# Altium footprint library Ceramic Capacitor.PcbLib: 3 footprints
Each footprint in its own frame and in the unit in brackets; x right, y up, seen from the top. Pads: shape width x height; smd on the part's side, far side on the other; paste and mask are expansions set on the pad; w line width, h text height; cw(c..) or ccw(c..) is an arc to the next point about the centre after c.
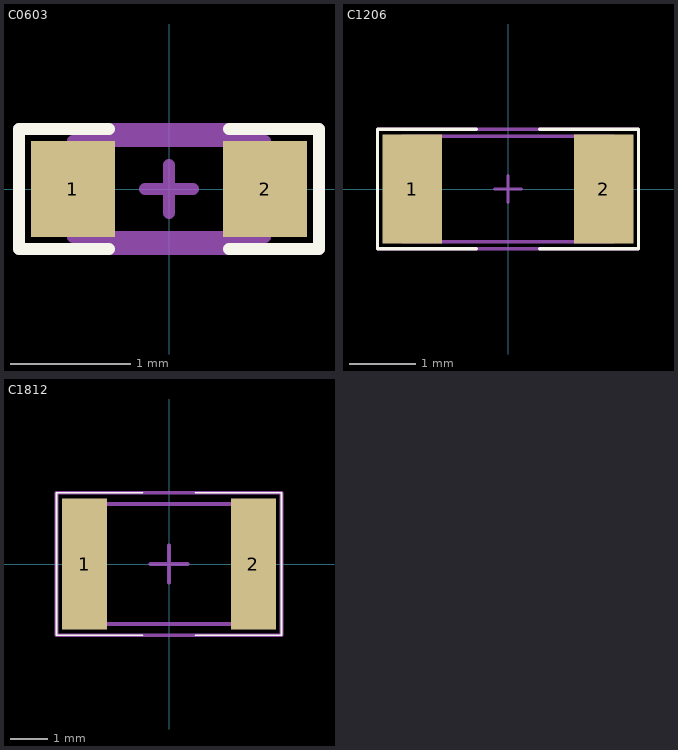
[diagram p0: the footprints below, top view; thin cyan lines are the x and y axes]

## C0603 [mm] "Capacıtor 0603"
pads (2):
  rect 0.7x0.8 smd mask+0.05: 1(-0.8,0) 2(0.8,0)
Top Overlay:
  lines w0.1: -0.5,-0.5 -1.25,-0.5 ; -0.5,0.5 -1.25,0.5 -1.25,-0.5 ; 0.5,-0.5 1.25,-0.5 1.25,0.5 ; 0.5,0.5 1.25,0.5 ; -1.25,-0.5 -1.25,-0.5 ; -1.25,-0.5 -1.25,-0.5 ; 1.25,0.5 1.25,0.5 ; 1.25,0.5 1.25,0.5
Top 3D Body:
  lines w0.1: -0.8,-0.4 -0.8,0.4 0.8,0.4 0.8,-0.4 -0.8,-0.4
Top Component Center:
  lines w0.1: -0.2,0 0.2,0 ; 0,-0.2 0,0.2 ; -1.25,-0.5 1.25,-0.5 1.25,0.5 -1.25,0.5 -1.25,-0.5
Top Designator:
  lines w0.1: -1.25,-0.5 1.25,-0.5 1.25,0.5 -1.25,0.5 -1.25,-0.5
  text ".Designator" at -0.963,-0.216 h0.5
3D body "Ceramic_Capacitor_0603_h32mil.step": height 0.81, standoff 0.01, extent -0.8,-0.4 0.8,0.4

## C1206 [mm] "Capacıtor 1206"
pads (2):
  rect 0.9x1.65 smd mask+0.05: 1(-1.45,0) 2(1.45,0)
Top Overlay:
  lines w0.05: -0.48,-0.905 -1.98,-0.905 -1.98,0.905 -0.48,0.905 ; 0.48,-0.905 1.98,-0.905 1.98,0.905 0.48,0.905
Top 3D Body:
  lines w0.05: -1.6,-0.8 -1.6,0.8 1.6,0.8 1.6,-0.8 -1.6,-0.8
Top Component Center:
  lines w0.05: -0.2,0 0.2,0 ; 0,-0.2 0,0.2 ; -1.98,-0.905 1.98,-0.905 1.98,0.905 -1.98,0.905 -1.98,-0.905
Top Designator:
  lines w0.05: -1.98,-0.905 -1.98,0.905 1.98,0.905 1.98,-0.905 -1.98,-0.905
  text ".Designator" at -0.213,-0.119 h0.5
3D body "Ceramic_Capacitor_1206_h63mil.step": height 1.61, standoff 0.01, extent -1.6,-0.8 1.6,0.8

## C1812 [mm]
pads (2):
  rect 1.2x3.5 smd mask+0.05: 1(-2.25,0) 2(2.25,0)
Top Overlay:
  lines w0.05: -0.7,-1.9 -3,-1.9 -3,1.9 -0.7,1.9 ; 0.7,-1.9 3,-1.9 3,1.9 0.7,1.9
Top 3D Body:
  lines w0.1: -2.25,-1.6 2.25,-1.6 2.25,1.6 -2.25,1.6 -2.25,-1.6
Top Component Center:
  lines w0.1: -0.5,0 0.5,0 ; 0,-0.5 0,0.5 ; -3,-1.9 3,-1.9 3,1.9 -3,1.9 -3,-1.9
Top Designator:
  lines w0.1: -3,-1.9 3,-1.9 3,1.9 -3,1.9 -3,-1.9
  text ".Designator" at -0.2,-0.133 h0.5
3D body "Ceramic_Capacitor_1812_h63mil.step": height 1.61, standoff 0.01, extent -2.25,-1.6 2.25,1.6